# EAGLE library part M08X2 (library 0Robin)
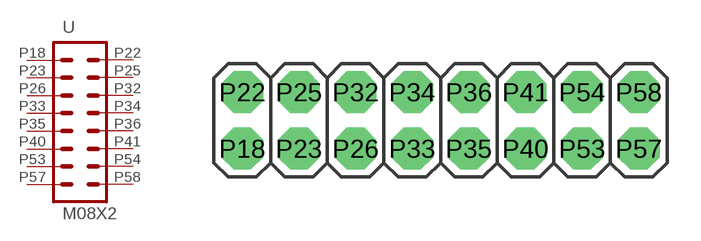
[diagram p2: symbol with the pads of 2X8; footprint 2X8]

Designator prefix -

## M08X2  [2X8]
P18  1  pas
P22  2  pas
P23  3  pas
P25  4  pas
P26  5  pas
P32  6  pas
P33  7  pas
P34  8  pas
P35  9  pas
P36  10  pas
P40  11  pas
P41  12  pas
P53  13  pas
P54  14  pas
P57  15  pas
P58  16  pas

## Footprint 2X8 (pad centres in mm)
drill 0.254 pad 1.88 octagon: P18 0,0; P22 0,2.54; P23 2.54,0; P25 2.54,2.54; P26 5.08,0; P32 5.08,2.54; P33 7.62,0; P34 7.62,2.54; P35 10.16,0; P36 10.16,2.54; P40 12.7,0; P41 12.7,2.54; P53 15.24,0; P54 15.24,2.54; P57 17.78,0; P58 17.78,2.54